# EAGLE library part RBP- (library OSSIdonghee)
RBP Series band pass filter from minicircuits RBP-140: 140MHz RBP-440: 440MHz
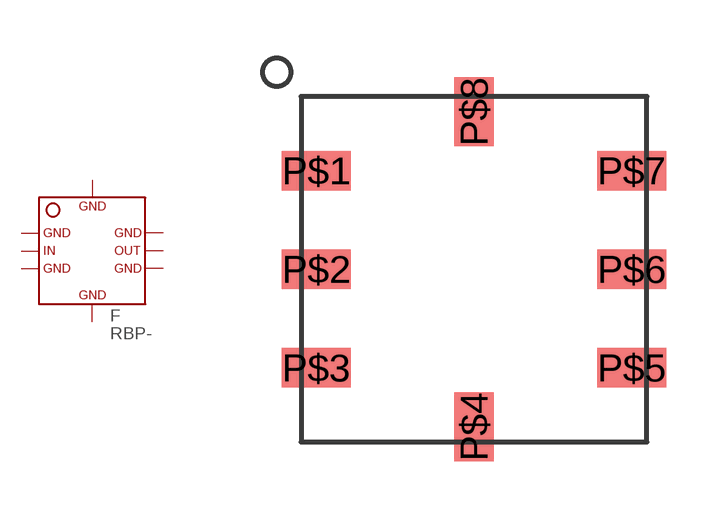
[diagram p18: symbol with the pads of RBP; footprint RBP]

Designator prefix F

## RBP-440  [RBP]
P$1  P$1  pwr
P$2  P$2  in
P$3  P$3  pwr
P$4  P$4  pwr
P$5  P$5  pwr
P$6  P$6  out
P$7  P$7  pwr
P$8  P$8  pwr

## RBP-140  [RBP]
Pads as for RBP

## Footprint RBP (pad centres in mm)
Mini Circuits RBP band pass filter seires please refer to datasheets for via holes and recommended land patterns
smd 1.78 x 1.02: P$1 -4.06,2.54; P$2 -4.06,0; P$3 -4.06,-2.54; P$5 4.06,-2.54; P$6 4.06,0; P$7 4.06,2.54
smd 1.02 x 1.78: P$4 0,-4.06; P$8 0,4.06